# Altium schematic symbol library ADS1118.SchLib: 1 symbol
Pins are listed as number, name and electrical type; pins without a type are passive.

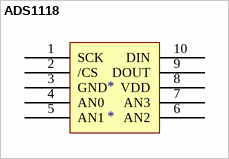
[diagram p0: symbol ADS1118]

## ADS1118
designator *
footprint *SOP50P490X110-10N
pins: 1 SCK, 2 /CS, 3 GND, 4 AN0, 5 AN1, 6 AN2, 7 AN3, 8 VDD, 9 DOUT, 10 DIN